# Altium footprint library SON35P100X40-6N.PcbLib: 1 footprints
Each footprint in its own frame and in the unit in brackets; x right, y up, seen from the top. Pads: shape width x height; smd on the part's side, far side on the other; paste and mask are expansions set on the pad; w line width, h text height; cw(c..) or ccw(c..) is an arc to the next point about the centre after c.
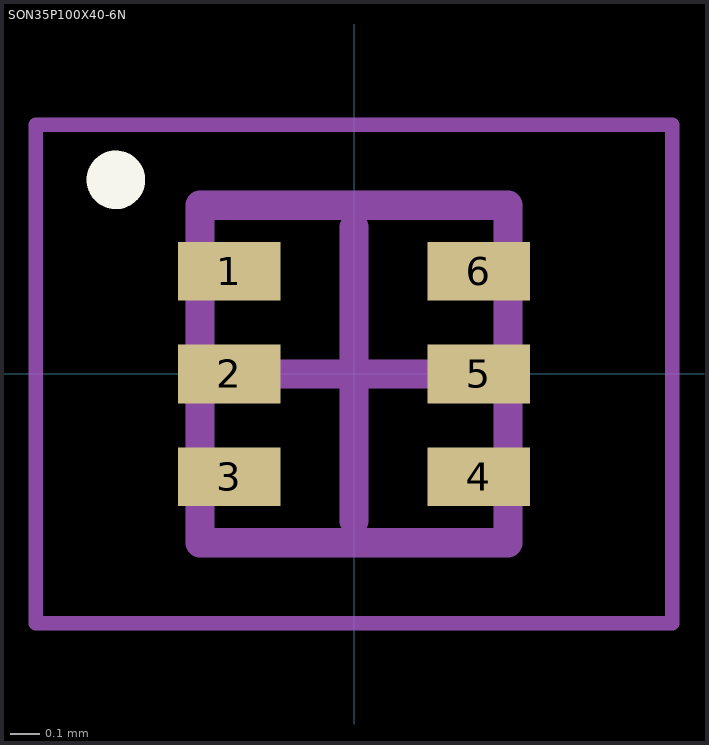
[diagram p0: the footprint, top view; thin cyan lines are the x and y axes]

## SON35P100X40-6N [mm] "SON, 6-Leads, Body 1,10x1,00mm, Pitch 0,35mm, IPC Medium Density"
height 0.4
pads (6):
  rect 0.35x0.2 smd: 1(-0.425,0.35) 2(-0.425,0) 3(-0.425,-0.35) 4(0.425,-0.35) 5(0.425,0) 6(0.425,0.35)
Top Overlay:
  circle w0.1: c-0.812,0.662 r0.05
Mechanical 13:
  lines w0.1: -0.525,-0.575 0.525,-0.575 0.525,0.575 -0.525,0.575 -0.525,-0.575
Mechanical 15:
  lines w0.05: -1.085,-0.85 1.085,-0.85 1.085,0.85 -1.085,0.85 -1.085,-0.85
  lines w0.1: -0.5,0 0.5,0 ; 0,-0.5 0,0.5
3D body "SOT1216.step": height 0.39, standoff 0.01, extent -0.492,-0.55 0.508,0.55